# Altium schematic symbol library kmilo17pet-NSC_MiscPower.SchLib: 1552 symbols (part 21 of 43)
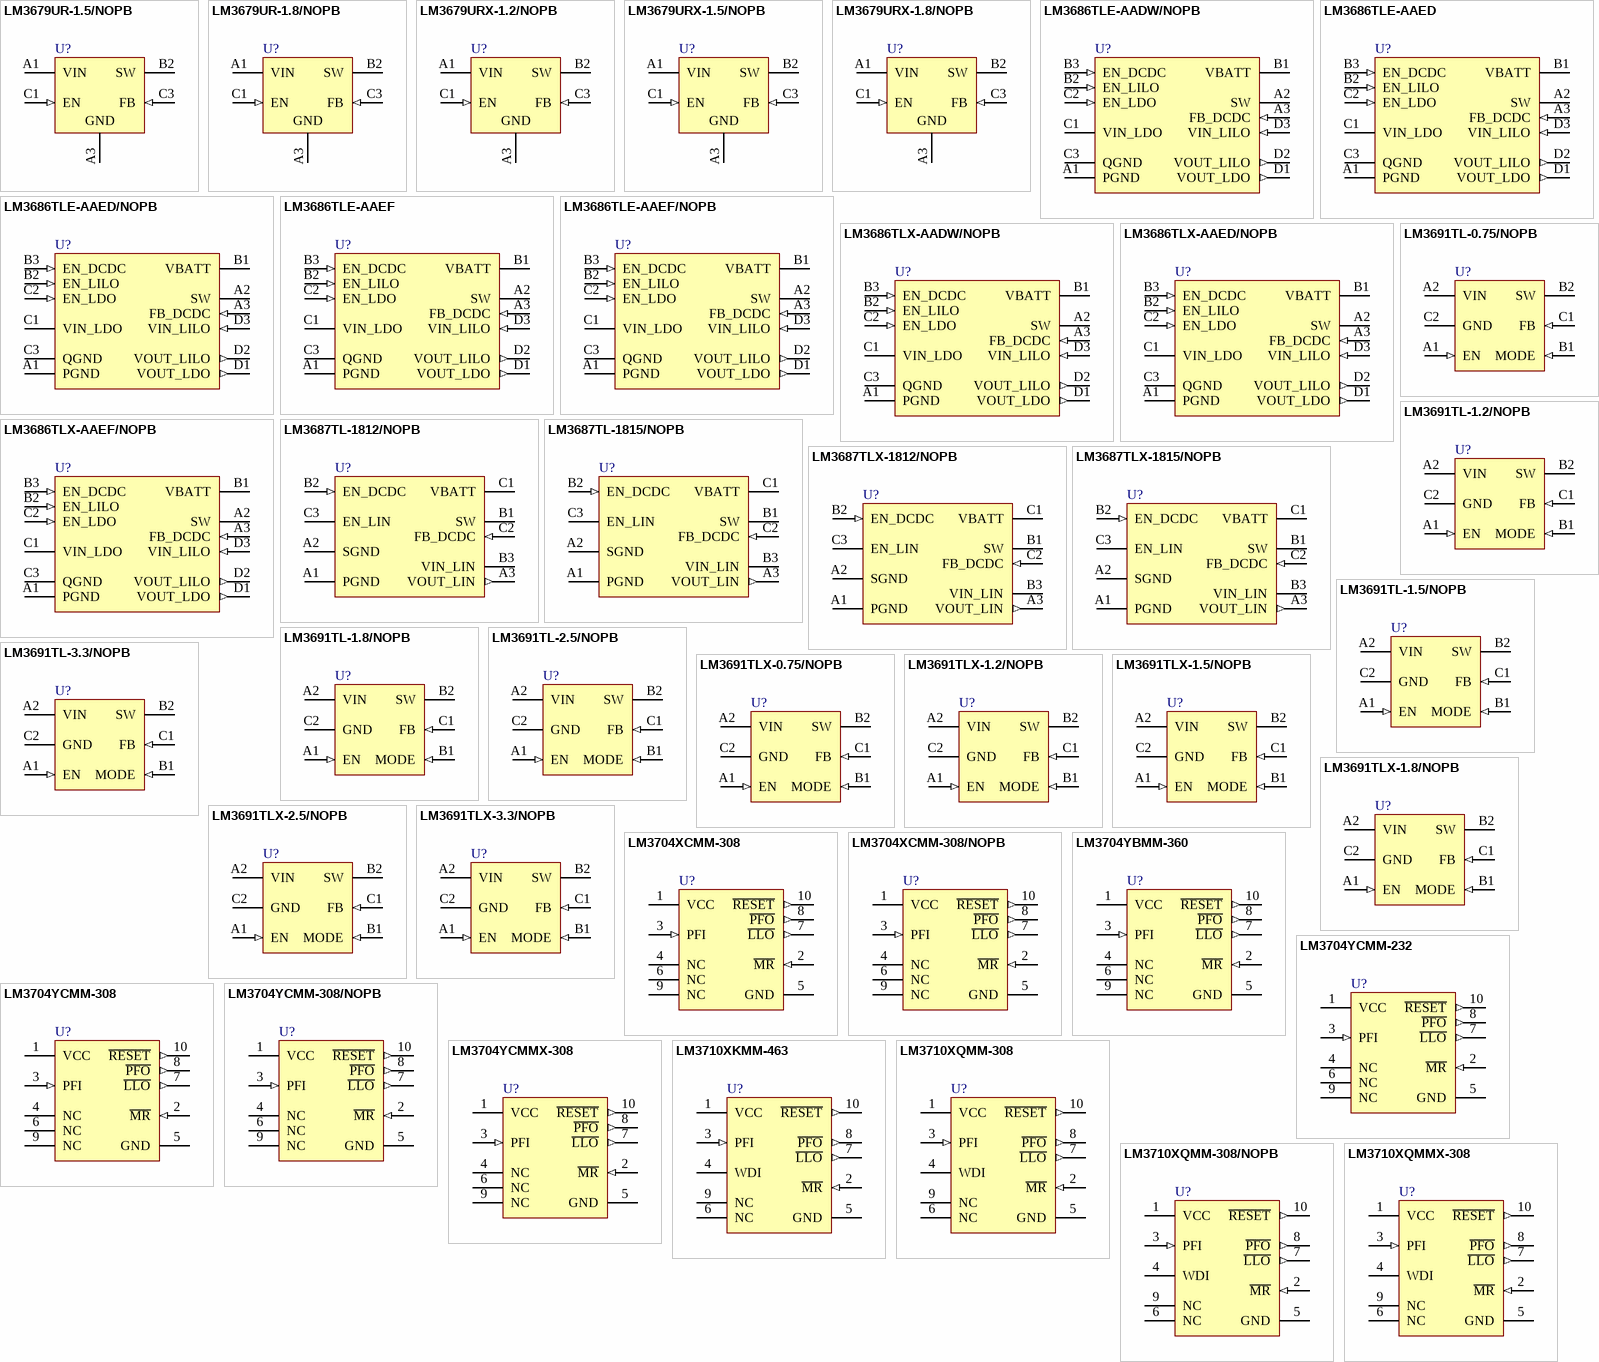
[diagram p77: symbols LM3679UR-1.5/NOPB to LM3710XQMMX-308]

## LM3679URX-1.5/NOPB
designator U?
3MHz, 350mA Miniature Step-Down DC-DC Converter for Ultra Low Profile Applications (Height < 0.55mm), 5-pin Micro SMD, Pb-Free; PartNumber: LM3679URX-1.5/NOPB; Manufacturer: National Semiconductor; PackageTopMarking: XV*I 4; PowerWise: N; CompType: MiscPower; High-Reliability: Y; DatasheetVersion: Feb-2008; PackageVersion: Feb-2008; PackageReference: URA05HHA; PackageDescription: Ultra Thin Micro SMD, 5 Bump (Large), 0.5mm Pitch; RoHS: Y; PinCount: 5; ComponentLink1Description: Manufacturer URL; ComponentLink1URL: http://www.national.com/; ComponentLink2Description: LM3679 Datasheet; ComponentLink2URL: http://www.national.com/ds/LM/LM3679.pdf; ComponentLink3Description: LM3679 Web Page; ComponentLink3URL: http://www.national.com/pf/LM/LM3679.html; ComponentLink4Description: URA05HHA Package Page; ComponentLink4URL: http://www.national.com/packaging/folders/ura05hha.html
footprint URA05HHA (Micro SMD, 5-Leads, Body 1.5x1.13mm, Pitch 0.5mm, NSC Recommended)
pins: A1 VIN (power), A3 GND (power), B2 SW (power), C1 EN (in), C3 FB (in)

## LM3679URX-1.8/NOPB
designator U?
3MHz, 350mA Miniature Step-Down DC-DC Converter for Ultra Low Profile Applications (Height < 0.55mm), 5-pin Micro SMD, Pb-Free; PartNumber: LM3679URX-1.8/NOPB; Manufacturer: National Semiconductor; PackageTopMarking: XV*I R; PowerWise: Y; CompType: MiscPower; DatasheetVersion: Feb-2008; PackageVersion: Feb-2008; PackageReference: URA05HHA; PackageDescription: Ultra Thin Micro SMD, 5 Bump (Large), 0.5mm Pitch; RoHS: Y; PinCount: 5; High-Reliability: Y; ComponentLink1Description: Manufacturer URL; ComponentLink1URL: http://www.national.com/; ComponentLink2Description: LM3679 Datasheet; ComponentLink2URL: http://www.national.com/ds/LM/LM3679.pdf; ComponentLink3Description: LM3679 Web Page; ComponentLink3URL: http://www.national.com/pf/LM/LM3679.html; ComponentLink4Description: URA05HHA Package Page; ComponentLink4URL: http://www.national.com/packaging/folders/ura05hha.html
footprint URA05HHA (Micro SMD, 5-Leads, Body 1.5x1.13mm, Pitch 0.5mm, NSC Recommended)
pins: A1 VIN (power), A3 GND (power), B2 SW (power), C1 EN (in), C3 FB (in)

## LM3686TLE-AADW/NOPB
designator U?
Step-Down DC-DC Converter with Integrated Post Linear Regulators System and Low-Noise Linear Regulator, 12-pin Micro SMD, Pb-Free; PartNumber: LM3686TLE-AADW/NOPB; Manufacturer: National Semiconductor; PackageTopMarking: XYTT*I SUEB; PowerWise: N; CompType: MiscPower; High-Reliability: Y; DatasheetVersion: Dec-2008; PackageVersion: revC, Jan-2004; PackageReference: TLA12HTA; PackageDescription: Thin Micro SMD, 12 Bump (Large), Area Array, 0.5mm Pitch; RoHS: Y; PinCount: 12; Code_JEDEC: MO-211-DE; ComponentLink1Description: Manufacturer URL; ComponentLink1URL: http://www.national.com/; ComponentLink2Description: LM3686 Datasheet; ComponentLink2URL: http://www.national.com/ds/LM/LM3686.pdf; ComponentLink3Description: LM3686 Web Page; ComponentLink3URL: http://www.national.com/pf/LM/LM3686.html; ComponentLink4Description: TLA12HTA Package Page; ComponentLink4URL: http://www.national.com/packaging/folders/tla12hta.html
footprint TLA12HTA (Micro SMD, 12-Leads, Body 2.43x1.69mm, Pitch 0.5mm, NSC Recommended)
pins: A1 PGND (power), A2 SW (power), A3 FB_DCDC (in), B1 VBATT (power), B2 EN_LILO (in), B3 EN_DCDC (in), C1 VIN_LDO (power), C2 EN_LDO (in), C3 QGND (power), D1 VOUT_LDO (out), D2 VOUT_LILO (out), D3 VIN_LILO (in)

## LM3686TLE-AAED
designator U?
Step-Down DC-DC Converter with Integrated Post Linear Regulators System and Low-Noise Linear Regulator, 12-pin Micro SMD; PartNumber: LM3686TLE-AAED; Manufacturer: National Semiconductor; PackageTopMarking: XYTT*I SXTB; PowerWise: N; CompType: MiscPower; High-Reliability: Y; DatasheetVersion: Dec-2008; PackageVersion: revC, Jan-2004; PackageReference: TLA12HTA; PackageDescription: Thin Micro SMD, 12 Bump (Large), Area Array, 0.5mm Pitch; RoHS: Y; PinCount: 12; Code_JEDEC: MO-211-DE; ComponentLink1Description: Manufacturer URL; ComponentLink1URL: http://www.national.com/; ComponentLink2Description: LM3686 Datasheet; ComponentLink2URL: http://www.national.com/ds/LM/LM3686.pdf; ComponentLink3Description: LM3686 Web Page; ComponentLink3URL: http://www.national.com/pf/LM/LM3686.html; ComponentLink4Description: TLA12HTA Package Page; ComponentLink4URL: http://www.national.com/packaging/folders/tla12hta.html
footprint TLA12HTA (Micro SMD, 12-Leads, Body 2.43x1.69mm, Pitch 0.5mm, NSC Recommended)
pins: A1 PGND (power), A2 SW (power), A3 FB_DCDC (in), B1 VBATT (power), B2 EN_LILO (in), B3 EN_DCDC (in), C1 VIN_LDO (power), C2 EN_LDO (in), C3 QGND (power), D1 VOUT_LDO (out), D2 VOUT_LILO (out), D3 VIN_LILO (in)

## LM3686TLE-AAED/NOPB
designator U?
Step-Down DC-DC Converter with Integrated Post Linear Regulators System and Low-Noise Linear Regulator, 12-pin Micro SMD, Pb-Free; PartNumber: LM3686TLE-AAED/NOPB; Manufacturer: National Semiconductor; PackageTopMarking: XYTT*I SXTB; PowerWise: N; CompType: MiscPower; High-Reliability: Y; DatasheetVersion: Dec-2008; PackageVersion: revC, Jan-2004; PackageReference: TLA12HTA; PackageDescription: Thin Micro SMD, 12 Bump (Large), Area Array, 0.5mm Pitch; RoHS: Y; PinCount: 12; Code_JEDEC: MO-211-DE; ComponentLink1Description: Manufacturer URL; ComponentLink1URL: http://www.national.com/; ComponentLink2Description: LM3686 Datasheet; ComponentLink2URL: http://www.national.com/ds/LM/LM3686.pdf; ComponentLink3Description: LM3686 Web Page; ComponentLink3URL: http://www.national.com/pf/LM/LM3686.html; ComponentLink4Description: TLA12HTA Package Page; ComponentLink4URL: http://www.national.com/packaging/folders/tla12hta.html
footprint TLA12HTA (Micro SMD, 12-Leads, Body 2.43x1.69mm, Pitch 0.5mm, NSC Recommended)
pins: A1 PGND (power), A2 SW (power), A3 FB_DCDC (in), B1 VBATT (power), B2 EN_LILO (in), B3 EN_DCDC (in), C1 VIN_LDO (power), C2 EN_LDO (in), C3 QGND (power), D1 VOUT_LDO (out), D2 VOUT_LILO (out), D3 VIN_LILO (in)

## LM3686TLE-AAEF
designator U?
Step-Down DC-DC Converter with Integrated Post Linear Regulators System and Low-Noise Linear Regulator, 12-pin Micro SMD; PartNumber: LM3686TLE-AAEF; Manufacturer: National Semiconductor; PackageTopMarking: XYTT*I SXZB; PowerWise: N; CompType: MiscPower; High-Reliability: Y; DatasheetVersion: Dec-2008; PackageVersion: revC, Jan-2004; PackageReference: TLA12HTA; PackageDescription: Thin Micro SMD, 12 Bump (Large), Area Array, 0.5mm Pitch; RoHS: Y; PinCount: 12; Code_JEDEC: MO-211-DE; ComponentLink1Description: Manufacturer URL; ComponentLink1URL: http://www.national.com/; ComponentLink2Description: LM3686 Datasheet; ComponentLink2URL: http://www.national.com/ds/LM/LM3686.pdf; ComponentLink3Description: LM3686 Web Page; ComponentLink3URL: http://www.national.com/pf/LM/LM3686.html; ComponentLink4Description: TLA12HTA Package Page; ComponentLink4URL: http://www.national.com/packaging/folders/tla12hta.html
footprint TLA12HTA (Micro SMD, 12-Leads, Body 2.43x1.69mm, Pitch 0.5mm, NSC Recommended)
pins: A1 PGND (power), A2 SW (power), A3 FB_DCDC (in), B1 VBATT (power), B2 EN_LILO (in), B3 EN_DCDC (in), C1 VIN_LDO (power), C2 EN_LDO (in), C3 QGND (power), D1 VOUT_LDO (out), D2 VOUT_LILO (out), D3 VIN_LILO (in)

## LM3686TLE-AAEF/NOPB
designator U?
Step-Down DC-DC Converter with Integrated Post Linear Regulators System and Low-Noise Linear Regulator, 12-pin Micro SMD, Pb-Free; PartNumber: LM3686TLE-AAEF/NOPB; Manufacturer: National Semiconductor; PackageTopMarking: XYTT*I SXZB; PowerWise: N; CompType: MiscPower; High-Reliability: Y; DatasheetVersion: Dec-2008; PackageVersion: revC, Jan-2004; PackageReference: TLA12HTA; PackageDescription: Thin Micro SMD, 12 Bump (Large), Area Array, 0.5mm Pitch; RoHS: Y; PinCount: 12; Code_JEDEC: MO-211-DE; ComponentLink1Description: Manufacturer URL; ComponentLink1URL: http://www.national.com/; ComponentLink2Description: LM3686 Datasheet; ComponentLink2URL: http://www.national.com/ds/LM/LM3686.pdf; ComponentLink3Description: LM3686 Web Page; ComponentLink3URL: http://www.national.com/pf/LM/LM3686.html; ComponentLink4Description: TLA12HTA Package Page; ComponentLink4URL: http://www.national.com/packaging/folders/tla12hta.html
footprint TLA12HTA (Micro SMD, 12-Leads, Body 2.43x1.69mm, Pitch 0.5mm, NSC Recommended)
pins: A1 PGND (power), A2 SW (power), A3 FB_DCDC (in), B1 VBATT (power), B2 EN_LILO (in), B3 EN_DCDC (in), C1 VIN_LDO (power), C2 EN_LDO (in), C3 QGND (power), D1 VOUT_LDO (out), D2 VOUT_LILO (out), D3 VIN_LILO (in)

## LM3686TLX-AADW/NOPB
designator U?
Step-Down DC-DC Converter with Integrated Post Linear Regulators System and Low-Noise Linear Regulator, 12-pin Micro SMD, Pb-Free; PartNumber: LM3686TLX-AADW/NOPB; Manufacturer: National Semiconductor; PackageTopMarking: XYTT*I SUEB; PowerWise: N; CompType: MiscPower; High-Reliability: Y; DatasheetVersion: Dec-2008; PackageVersion: revC, Jan-2004; PackageReference: TLA12HTA; PackageDescription: Thin Micro SMD, 12 Bump (Large), Area Array, 0.5mm Pitch; RoHS: Y; PinCount: 12; Code_JEDEC: MO-211-DE; ComponentLink1Description: Manufacturer URL; ComponentLink1URL: http://www.national.com/; ComponentLink2Description: LM3686 Datasheet; ComponentLink2URL: http://www.national.com/ds/LM/LM3686.pdf; ComponentLink3Description: LM3686 Web Page; ComponentLink3URL: http://www.national.com/pf/LM/LM3686.html; ComponentLink4Description: TLA12HTA Package Page; ComponentLink4URL: http://www.national.com/packaging/folders/tla12hta.html
footprint TLA12HTA (Micro SMD, 12-Leads, Body 2.43x1.69mm, Pitch 0.5mm, NSC Recommended)
pins: A1 PGND (power), A2 SW (power), A3 FB_DCDC (in), B1 VBATT (power), B2 EN_LILO (in), B3 EN_DCDC (in), C1 VIN_LDO (power), C2 EN_LDO (in), C3 QGND (power), D1 VOUT_LDO (out), D2 VOUT_LILO (out), D3 VIN_LILO (in)

## LM3686TLX-AAED/NOPB
designator U?
Step-Down DC-DC Converter with Integrated Post Linear Regulators System and Low-Noise Linear Regulator, 12-pin Micro SMD, Pb-Free; PartNumber: LM3686TLX-AAED/NOPB; Manufacturer: National Semiconductor; PackageTopMarking: XYTT*I SXTB; PowerWise: N; CompType: MiscPower; High-Reliability: Y; DatasheetVersion: Dec-2008; PackageVersion: revC, Jan-2004; PackageReference: TLA12HTA; PackageDescription: Thin Micro SMD, 12 Bump (Large), Area Array, 0.5mm Pitch; RoHS: Y; PinCount: 12; Code_JEDEC: MO-211-DE; ComponentLink1Description: Manufacturer URL; ComponentLink1URL: http://www.national.com/; ComponentLink2Description: LM3686 Datasheet; ComponentLink2URL: http://www.national.com/ds/LM/LM3686.pdf; ComponentLink3Description: LM3686 Web Page; ComponentLink3URL: http://www.national.com/pf/LM/LM3686.html; ComponentLink4Description: TLA12HTA Package Page; ComponentLink4URL: http://www.national.com/packaging/folders/tla12hta.html
footprint TLA12HTA (Micro SMD, 12-Leads, Body 2.43x1.69mm, Pitch 0.5mm, NSC Recommended)
pins: A1 PGND (power), A2 SW (power), A3 FB_DCDC (in), B1 VBATT (power), B2 EN_LILO (in), B3 EN_DCDC (in), C1 VIN_LDO (power), C2 EN_LDO (in), C3 QGND (power), D1 VOUT_LDO (out), D2 VOUT_LILO (out), D3 VIN_LILO (in)

## LM3686TLX-AAEF/NOPB
designator U?
Step-Down DC-DC Converter with Integrated Post Linear Regulators System and Low-Noise Linear Regulator, 12-pin Micro SMD, Pb-Free; PartNumber: LM3686TLX-AAEF/NOPB; Manufacturer: National Semiconductor; PackageTopMarking: XYTT*I SXZB; PowerWise: N; CompType: MiscPower; High-Reliability: Y; DatasheetVersion: Dec-2008; PackageVersion: revC, Jan-2004; PackageReference: TLA12HTA; PackageDescription: Thin Micro SMD, 12 Bump (Large), Area Array, 0.5mm Pitch; RoHS: Y; PinCount: 12; Code_JEDEC: MO-211-DE; ComponentLink1Description: Manufacturer URL; ComponentLink1URL: http://www.national.com/; ComponentLink2Description: LM3686 Datasheet; ComponentLink2URL: http://www.national.com/ds/LM/LM3686.pdf; ComponentLink3Description: LM3686 Web Page; ComponentLink3URL: http://www.national.com/pf/LM/LM3686.html; ComponentLink4Description: TLA12HTA Package Page; ComponentLink4URL: http://www.national.com/packaging/folders/tla12hta.html
footprint TLA12HTA (Micro SMD, 12-Leads, Body 2.43x1.69mm, Pitch 0.5mm, NSC Recommended)
pins: A1 PGND (power), A2 SW (power), A3 FB_DCDC (in), B1 VBATT (power), B2 EN_LILO (in), B3 EN_DCDC (in), C1 VIN_LDO (power), C2 EN_LDO (in), C3 QGND (power), D1 VOUT_LDO (out), D2 VOUT_LILO (out), D3 VIN_LILO (in)

## LM3687TL-1812/NOPB
designator U?
Step-Down DC-DC Converter with Integrated Low Dropout Regulator and Startup Mode, 9-pin Micro SMD, Pb-Free; PartNumber: LM3687TL-1812/NOPB; Manufacturer: National Semiconductor; PackageTopMarking: XV*I SB; PowerWise: N; CompType: MiscPower; High-Reliability: Y; DatasheetVersion: Jul-2008; PackageVersion: revC, Jan-2004; PackageReference: TLA09BBA; PackageDescription: Thin Micro SMD, 9 Bump (Large), 0.5mm Pitch; RoHS: Y; PinCount: 9; Code_JEDEC: MO-211-DD; ComponentLink1Description: Manufacturer URL; ComponentLink1URL: http://www.national.com/; ComponentLink2Description: LM3687 Datasheet; ComponentLink2URL: http://www.national.com/ds/LM/LM3687.pdf; ComponentLink3Description: LM3687 Web Page; ComponentLink3URL: http://www.national.com/pf/LM/LM3687.html; ComponentLink4Description: TLA09BBA Package Page; ComponentLink4URL: http://www.national.com/packaging/folders/tla09bba.html
footprint TLA09BBA (Micro SMD, 9-Leads, Body 1.54x1.54mm, Pitch 0.5mm, NSC Recommended)
pins: A1 PGND (power), A2 SGND (power), A3 VOUT_LIN (out), B1 SW (power), B2 EN_DCDC (in), B3 VIN_LIN (power), C1 VBATT (power), C2 FB_DCDC (in), C3 EN_LIN (power)

## LM3687TL-1815/NOPB
designator U?
Step-Down DC-DC Converter with Integrated Low Dropout Regulator and Startup Mode, 9-pin Micro SMD, Pb-Free; PartNumber: LM3687TL-1815/NOPB; Manufacturer: National Semiconductor; PackageTopMarking: XV*I S9; PowerWise: Y; CompType: MiscPower; DatasheetVersion: Jul-2008; PackageVersion: revC, Jan-2004; PackageReference: TLA09BBA; PackageDescription: Thin Micro SMD, 9 Bump (Large), 0.5mm Pitch; RoHS: Y; PinCount: 9; High-Reliability: Y; Code_JEDEC: MO-211-DD; ComponentLink1Description: Manufacturer URL; ComponentLink1URL: http://www.national.com/; ComponentLink2Description: LM3687 Datasheet; ComponentLink2URL: http://www.national.com/ds/LM/LM3687.pdf; ComponentLink3Description: LM3687 Web Page; ComponentLink3URL: http://www.national.com/pf/LM/LM3687.html; ComponentLink4Description: TLA09BBA Package Page; ComponentLink4URL: http://www.national.com/packaging/folders/tla09bba.html
footprint TLA09BBA (Micro SMD, 9-Leads, Body 1.54x1.54mm, Pitch 0.5mm, NSC Recommended)
pins: A1 PGND (power), A2 SGND (power), A3 VOUT_LIN (out), B1 SW (power), B2 EN_DCDC (in), B3 VIN_LIN (power), C1 VBATT (power), C2 FB_DCDC (in), C3 EN_LIN (power)

## LM3687TLX-1812/NOPB
designator U?
Step-Down DC-DC Converter with Integrated Low Dropout Regulator and Startup Mode, 9-pin Micro SMD, Pb-Free; PartNumber: LM3687TLX-1812/NOPB; Manufacturer: National Semiconductor; PackageTopMarking: XV*I SB; PowerWise: N; CompType: MiscPower; High-Reliability: Y; DatasheetVersion: Jul-2008; PackageVersion: revC, Jan-2004; PackageReference: TLA09BBA; PackageDescription: Thin Micro SMD, 9 Bump (Large), 0.5mm Pitch; RoHS: Y; PinCount: 9; Code_JEDEC: MO-211-DD; ComponentLink1Description: Manufacturer URL; ComponentLink1URL: http://www.national.com/; ComponentLink2Description: LM3687 Datasheet; ComponentLink2URL: http://www.national.com/ds/LM/LM3687.pdf; ComponentLink3Description: LM3687 Web Page; ComponentLink3URL: http://www.national.com/pf/LM/LM3687.html; ComponentLink4Description: TLA09BBA Package Page; ComponentLink4URL: http://www.national.com/packaging/folders/tla09bba.html
footprint TLA09BBA (Micro SMD, 9-Leads, Body 1.54x1.54mm, Pitch 0.5mm, NSC Recommended)
pins: A1 PGND (power), A2 SGND (power), A3 VOUT_LIN (out), B1 SW (power), B2 EN_DCDC (in), B3 VIN_LIN (power), C1 VBATT (power), C2 FB_DCDC (in), C3 EN_LIN (power)

## LM3687TLX-1815/NOPB
designator U?
Step-Down DC-DC Converter with Integrated Low Dropout Regulator and Startup Mode, 9-pin Micro SMD, Pb-Free; PartNumber: LM3687TLX-1815/NOPB; Manufacturer: National Semiconductor; PackageTopMarking: XV*I S9; PowerWise: Y; CompType: MiscPower; DatasheetVersion: Jul-2008; PackageVersion: revC, Jan-2004; PackageReference: TLA09BBA; PackageDescription: Thin Micro SMD, 9 Bump (Large), 0.5mm Pitch; RoHS: Y; PinCount: 9; High-Reliability: Y; Code_JEDEC: MO-211-DD; ComponentLink1Description: Manufacturer URL; ComponentLink1URL: http://www.national.com/; ComponentLink2Description: LM3687 Datasheet; ComponentLink2URL: http://www.national.com/ds/LM/LM3687.pdf; ComponentLink3Description: LM3687 Web Page; ComponentLink3URL: http://www.national.com/pf/LM/LM3687.html; ComponentLink4Description: TLA09BBA Package Page; ComponentLink4URL: http://www.national.com/packaging/folders/tla09bba.html
footprint TLA09BBA (Micro SMD, 9-Leads, Body 1.54x1.54mm, Pitch 0.5mm, NSC Recommended)
pins: A1 PGND (power), A2 SGND (power), A3 VOUT_LIN (out), B1 SW (power), B2 EN_DCDC (in), B3 VIN_LIN (power), C1 VBATT (power), C2 FB_DCDC (in), C3 EN_LIN (power)

## LM3691TL-0.75/NOPB
designator U?
High Accuracy, Miniature 1A, Step-Down DC-DC Converter for Portable Applications, 6-pin Micro SMD, Pb-Free; PartNumber: LM3691TL-0.75/NOPB; Manufacturer: National Semiconductor; PackageTopMarking: XV*I V; PowerWise: Y; CompType: MiscPower; DatasheetVersion: Jan-2011; PackageVersion: revC, Jan-2004; PackageReference: TLA06LCA; PackageDescription: Thin Micro SMD, 6 Bump (Large), 0.5mm Pitch; RoHS: Y; PinCount: 6; High-Reliability: Y; Code_JEDEC: MO-211-DB; ComponentLink1Description: Manufacturer URL; ComponentLink1URL: http://www.national.com/; ComponentLink2Description: LM3691 Datasheet; ComponentLink2URL: http://www.national.com/ds/LM/LM3691.pdf; ComponentLink3Description: LM3691 Web Page; ComponentLink3URL: http://www.national.com/pf/LM/LM3691.html; ComponentLink4Description: TLA06LCA Package Page; ComponentLink4URL: http://www.national.com/packaging/folders/tla06lca.html
footprint TLA06LCA (Micro SMD, 6-Leads, Body 1.57x1.26mm, Pitch 0.5mm, NSC Recommended)
pins: A1 EN (in), A2 VIN (power), B1 MODE (in), B2 SW (power), C1 FB (in), C2 GND (power)

## LM3691TL-1.2/NOPB
designator U?
High Accuracy, Miniature 1A, Step-Down DC-DC Converter for Portable Applications, 6-pin Micro SMD, Pb-Free; PartNumber: LM3691TL-1.2/NOPB; Manufacturer: National Semiconductor; PackageTopMarking: XV*I X; PowerWise: Y; CompType: MiscPower; DatasheetVersion: Jan-2011; PackageVersion: revC, Jan-2004; PackageReference: TLA06LCA; PackageDescription: Thin Micro SMD, 6 Bump (Large), 0.5mm Pitch; RoHS: Y; PinCount: 6; High-Reliability: Y; Code_JEDEC: MO-211-DB; ComponentLink1Description: Manufacturer URL; ComponentLink1URL: http://www.national.com/; ComponentLink2Description: LM3691 Datasheet; ComponentLink2URL: http://www.national.com/ds/LM/LM3691.pdf; ComponentLink3Description: LM3691 Web Page; ComponentLink3URL: http://www.national.com/pf/LM/LM3691.html; ComponentLink4Description: TLA06LCA Package Page; ComponentLink4URL: http://www.national.com/packaging/folders/tla06lca.html
footprint TLA06LCA (Micro SMD, 6-Leads, Body 1.57x1.26mm, Pitch 0.5mm, NSC Recommended)
pins: A1 EN (in), A2 VIN (power), B1 MODE (in), B2 SW (power), C1 FB (in), C2 GND (power)

## LM3691TL-1.5/NOPB
designator U?
High Accuracy, Miniature 1A, Step-Down DC-DC Converter for Portable Applications, 6-pin Micro SMD, Pb-Free; PartNumber: LM3691TL-1.5/NOPB; Manufacturer: National Semiconductor; PackageTopMarking: XV*I Y; PowerWise: Y; CompType: MiscPower; DatasheetVersion: Jan-2011; PackageVersion: revC, Jan-2004; PackageReference: TLA06LCA; PackageDescription: Thin Micro SMD, 6 Bump (Large), 0.5mm Pitch; RoHS: Y; PinCount: 6; High-Reliability: Y; Code_JEDEC: MO-211-DB; ComponentLink1Description: Manufacturer URL; ComponentLink1URL: http://www.national.com/; ComponentLink2Description: LM3691 Datasheet; ComponentLink2URL: http://www.national.com/ds/LM/LM3691.pdf; ComponentLink3Description: LM3691 Web Page; ComponentLink3URL: http://www.national.com/pf/LM/LM3691.html; ComponentLink4Description: TLA06LCA Package Page; ComponentLink4URL: http://www.national.com/packaging/folders/tla06lca.html
footprint TLA06LCA (Micro SMD, 6-Leads, Body 1.57x1.26mm, Pitch 0.5mm, NSC Recommended)
pins: A1 EN (in), A2 VIN (power), B1 MODE (in), B2 SW (power), C1 FB (in), C2 GND (power)

## LM3691TL-1.8/NOPB
designator U?
High Accuracy, Miniature 1A, Step-Down DC-DC Converter for Portable Applications, 6-pin Micro SMD, Pb-Free; PartNumber: LM3691TL-1.8/NOPB; Manufacturer: National Semiconductor; PackageTopMarking: XV*I Z; PowerWise: Y; CompType: MiscPower; DatasheetVersion: Jan-2011; PackageVersion: revC, Jan-2004; PackageReference: TLA06LCA; PackageDescription: Thin Micro SMD, 6 Bump (Large), 0.5mm Pitch; RoHS: Y; PinCount: 6; High-Reliability: Y; Code_JEDEC: MO-211-DB; ComponentLink1Description: Manufacturer URL; ComponentLink1URL: http://www.national.com/; ComponentLink2Description: LM3691 Datasheet; ComponentLink2URL: http://www.national.com/ds/LM/LM3691.pdf; ComponentLink3Description: LM3691 Web Page; ComponentLink3URL: http://www.national.com/pf/LM/LM3691.html; ComponentLink4Description: TLA06LCA Package Page; ComponentLink4URL: http://www.national.com/packaging/folders/tla06lca.html
footprint TLA06LCA (Micro SMD, 6-Leads, Body 1.57x1.26mm, Pitch 0.5mm, NSC Recommended)
pins: A1 EN (in), A2 VIN (power), B1 MODE (in), B2 SW (power), C1 FB (in), C2 GND (power)

## LM3691TL-2.5/NOPB
designator U?
High Accuracy, Miniature 1A, Step-Down DC-DC Converter for Portable Applications, 6-pin Micro SMD, Pb-Free; PartNumber: LM3691TL-2.5/NOPB; Manufacturer: National Semiconductor; PackageTopMarking: XV*I 8; PowerWise: N; CompType: MiscPower; High-Reliability: Y; DatasheetVersion: Jan-2011; PackageVersion: revC, Jan-2004; PackageReference: TLA06LCA; PackageDescription: Thin Micro SMD, 6 Bump (Large), 0.5mm Pitch; RoHS: Y; PinCount: 6; Code_JEDEC: MO-211-DB; ComponentLink1Description: Manufacturer URL; ComponentLink1URL: http://www.national.com/; ComponentLink2Description: LM3691 Datasheet; ComponentLink2URL: http://www.national.com/ds/LM/LM3691.pdf; ComponentLink3Description: LM3691 Web Page; ComponentLink3URL: http://www.national.com/pf/LM/LM3691.html; ComponentLink4Description: TLA06LCA Package Page; ComponentLink4URL: http://www.national.com/packaging/folders/tla06lca.html
footprint TLA06LCA (Micro SMD, 6-Leads, Body 1.57x1.26mm, Pitch 0.5mm, NSC Recommended)
pins: A1 EN (in), A2 VIN (power), B1 MODE (in), B2 SW (power), C1 FB (in), C2 GND (power)

## LM3691TL-3.3/NOPB
designator U?
High Accuracy, Miniature 1A, Step-Down DC-DC Converter for Portable Applications, 6-pin Micro SMD, 250 Reel; PartNumber: LM3691TL-3.3/NOPB; Manufacturer: National Semiconductor; PackageTopMarking: XV*I T; PowerWise: N; CompType: MiscPower; High-Reliability: Y; DatasheetVersion: Jan-2011; PackageVersion: revC, Jan-2004; PackageReference: TLA06LCA; PackageDescription: Thin Micro SMD, 6 Bump (Large), 0.5mm Pitch; RoHS: Y; PinCount: 6; Code_JEDEC: MO-211-DB; ComponentLink1Description: Manufacturer URL; ComponentLink1URL: http://www.national.com/; ComponentLink2Description: LM3691 Datasheet; ComponentLink2URL: http://www.national.com/ds/LM/LM3691.pdf; ComponentLink3Description: LM3691 Web Page; ComponentLink3URL: http://www.national.com/pf/LM/LM3691.html; ComponentLink4Description: TLA06LCA Package Page; ComponentLink4URL: http://www.national.com/packaging/folders/tla06lca.html
footprint TLA06LCA (Micro SMD, 6-Leads, Body 1.57x1.26mm, Pitch 0.5mm, NSC Recommended)
pins: A1 EN (in), A2 VIN (power), B1 MODE (in), B2 SW (power), C1 FB (in), C2 GND (power)

## LM3691TLX-0.75/NOPB
designator U?
High Accuracy, Miniature 1A, Step-Down DC-DC Converter for Portable Applications, 6-pin Micro SMD, Pb-Free; PartNumber: LM3691TLX-0.75/NOPB; Manufacturer: National Semiconductor; PackageTopMarking: XV*I V; PowerWise: Y; CompType: MiscPower; DatasheetVersion: Jan-2011; PackageVersion: revC, Jan-2004; PackageReference: TLA06LCA; PackageDescription: Thin Micro SMD, 6 Bump (Large), 0.5mm Pitch; RoHS: Y; PinCount: 6; High-Reliability: Y; Code_JEDEC: MO-211-DB; ComponentLink1Description: Manufacturer URL; ComponentLink1URL: http://www.national.com/; ComponentLink2Description: LM3691 Datasheet; ComponentLink2URL: http://www.national.com/ds/LM/LM3691.pdf; ComponentLink3Description: LM3691 Web Page; ComponentLink3URL: http://www.national.com/pf/LM/LM3691.html; ComponentLink4Description: TLA06LCA Package Page; ComponentLink4URL: http://www.national.com/packaging/folders/tla06lca.html
footprint TLA06LCA (Micro SMD, 6-Leads, Body 1.57x1.26mm, Pitch 0.5mm, NSC Recommended)
pins: A1 EN (in), A2 VIN (power), B1 MODE (in), B2 SW (power), C1 FB (in), C2 GND (power)

## LM3691TLX-1.2/NOPB
designator U?
High Accuracy, Miniature 1A, Step-Down DC-DC Converter for Portable Applications, 6-pin Micro SMD, Pb-Free; PartNumber: LM3691TLX-1.2/NOPB; Manufacturer: National Semiconductor; PackageTopMarking: XV*I X; PowerWise: Y; CompType: MiscPower; DatasheetVersion: Jan-2011; PackageVersion: revC, Jan-2004; PackageReference: TLA06LCA; PackageDescription: Thin Micro SMD, 6 Bump (Large), 0.5mm Pitch; RoHS: Y; PinCount: 6; High-Reliability: Y; Code_JEDEC: MO-211-DB; ComponentLink1Description: Manufacturer URL; ComponentLink1URL: http://www.national.com/; ComponentLink2Description: LM3691 Datasheet; ComponentLink2URL: http://www.national.com/ds/LM/LM3691.pdf; ComponentLink3Description: LM3691 Web Page; ComponentLink3URL: http://www.national.com/pf/LM/LM3691.html; ComponentLink4Description: TLA06LCA Package Page; ComponentLink4URL: http://www.national.com/packaging/folders/tla06lca.html
footprint TLA06LCA (Micro SMD, 6-Leads, Body 1.57x1.26mm, Pitch 0.5mm, NSC Recommended)
pins: A1 EN (in), A2 VIN (power), B1 MODE (in), B2 SW (power), C1 FB (in), C2 GND (power)

## LM3691TLX-1.5/NOPB
designator U?
High Accuracy, Miniature 1A, Step-Down DC-DC Converter for Portable Applications, 6-pin Micro SMD, Pb-Free; PartNumber: LM3691TLX-1.5/NOPB; Manufacturer: National Semiconductor; PackageTopMarking: XV*I Y; PowerWise: Y; CompType: MiscPower; DatasheetVersion: Jan-2011; PackageVersion: revC, Jan-2004; PackageReference: TLA06LCA; PackageDescription: Thin Micro SMD, 6 Bump (Large), 0.5mm Pitch; RoHS: Y; PinCount: 6; High-Reliability: Y; Code_JEDEC: MO-211-DB; ComponentLink1Description: Manufacturer URL; ComponentLink1URL: http://www.national.com/; ComponentLink2Description: LM3691 Datasheet; ComponentLink2URL: http://www.national.com/ds/LM/LM3691.pdf; ComponentLink3Description: LM3691 Web Page; ComponentLink3URL: http://www.national.com/pf/LM/LM3691.html; ComponentLink4Description: TLA06LCA Package Page; ComponentLink4URL: http://www.national.com/packaging/folders/tla06lca.html
footprint TLA06LCA (Micro SMD, 6-Leads, Body 1.57x1.26mm, Pitch 0.5mm, NSC Recommended)
pins: A1 EN (in), A2 VIN (power), B1 MODE (in), B2 SW (power), C1 FB (in), C2 GND (power)

## LM3691TLX-1.8/NOPB
designator U?
High Accuracy, Miniature 1A, Step-Down DC-DC Converter for Portable Applications, 6-pin Micro SMD, Pb-Free; PartNumber: LM3691TLX-1.8/NOPB; Manufacturer: National Semiconductor; PackageTopMarking: XV*I Z; PowerWise: Y; CompType: MiscPower; DatasheetVersion: Jan-2011; PackageVersion: revC, Jan-2004; PackageReference: TLA06LCA; PackageDescription: Thin Micro SMD, 6 Bump (Large), 0.5mm Pitch; RoHS: Y; PinCount: 6; High-Reliability: Y; Code_JEDEC: MO-211-DB; ComponentLink1Description: Manufacturer URL; ComponentLink1URL: http://www.national.com/; ComponentLink2Description: LM3691 Datasheet; ComponentLink2URL: http://www.national.com/ds/LM/LM3691.pdf; ComponentLink3Description: LM3691 Web Page; ComponentLink3URL: http://www.national.com/pf/LM/LM3691.html; ComponentLink4Description: TLA06LCA Package Page; ComponentLink4URL: http://www.national.com/packaging/folders/tla06lca.html
footprint TLA06LCA (Micro SMD, 6-Leads, Body 1.57x1.26mm, Pitch 0.5mm, NSC Recommended)
pins: A1 EN (in), A2 VIN (power), B1 MODE (in), B2 SW (power), C1 FB (in), C2 GND (power)

## LM3691TLX-2.5/NOPB
designator U?
High Accuracy, Miniature 1A, Step-Down DC-DC Converter for Portable Applications, 6-pin Micro SMD, Pb-Free; PartNumber: LM3691TLX-2.5/NOPB; Manufacturer: National Semiconductor; PackageTopMarking: XV*I 8; PowerWise: N; CompType: MiscPower; High-Reliability: Y; DatasheetVersion: Jan-2011; PackageVersion: revC, Jan-2004; PackageReference: TLA06LCA; PackageDescription: Thin Micro SMD, 6 Bump (Large), 0.5mm Pitch; RoHS: Y; PinCount: 6; Code_JEDEC: MO-211-DB; ComponentLink1Description: Manufacturer URL; ComponentLink1URL: http://www.national.com/; ComponentLink2Description: LM3691 Datasheet; ComponentLink2URL: http://www.national.com/ds/LM/LM3691.pdf; ComponentLink3Description: LM3691 Web Page; ComponentLink3URL: http://www.national.com/pf/LM/LM3691.html; ComponentLink4Description: TLA06LCA Package Page; ComponentLink4URL: http://www.national.com/packaging/folders/tla06lca.html
footprint TLA06LCA (Micro SMD, 6-Leads, Body 1.57x1.26mm, Pitch 0.5mm, NSC Recommended)
pins: A1 EN (in), A2 VIN (power), B1 MODE (in), B2 SW (power), C1 FB (in), C2 GND (power)

## LM3691TLX-3.3/NOPB
designator U?
High Accuracy, Miniature 1A, Step-Down DC-DC Converter for Portable Applications, 6-pin Micro SMD, 3000 Reel; PartNumber: LM3691TLX-3.3/NOPB; Manufacturer: National Semiconductor; PackageTopMarking: XV*I T; PowerWise: N; CompType: MiscPower; High-Reliability: Y; DatasheetVersion: Jan-2011; PackageVersion: revC, Jan-2004; PackageReference: TLA06LCA; PackageDescription: Thin Micro SMD, 6 Bump (Large), 0.5mm Pitch; RoHS: Y; PinCount: 6; Code_JEDEC: MO-211-DB; ComponentLink1Description: Manufacturer URL; ComponentLink1URL: http://www.national.com/; ComponentLink2Description: LM3691 Datasheet; ComponentLink2URL: http://www.national.com/ds/LM/LM3691.pdf; ComponentLink3Description: LM3691 Web Page; ComponentLink3URL: http://www.national.com/pf/LM/LM3691.html; ComponentLink4Description: TLA06LCA Package Page; ComponentLink4URL: http://www.national.com/packaging/folders/tla06lca.html
footprint TLA06LCA (Micro SMD, 6-Leads, Body 1.57x1.26mm, Pitch 0.5mm, NSC Recommended)
pins: A1 EN (in), A2 VIN (power), B1 MODE (in), B2 SW (power), C1 FB (in), C2 GND (power)

## LM3704XCMM-308
designator U?
Microprocessor Supervisory Circuits with Power Fail Input, Low Line Output and Manual Reset, 10-pin MSOP; PartNumber: LM3704XCMM-308; Manufacturer: National Semiconductor; PackageTopMarking: ZXTT*R35B; PowerWise: N; CompType: MiscPower; High-Reliability: Y; DatasheetVersion: Sep-2003; PackageVersion: revB, Jul-2003; PackageReference: MUB10A; PackageDescription: Mini-SO, Molded, .118 x .118 x .034in Body, 10 Lead, .0197in Pitch; RoHS: N; PinCount: 10; Code_JEDEC: MO-187-BA; ComponentLink1Description: Manufacturer URL; ComponentLink1URL: http://www.national.com/; ComponentLink2Description: LM3704 Datasheet; ComponentLink2URL: http://www.national.com/ds/LM/LM3704.pdf; ComponentLink3Description: LM3704 Web Page; ComponentLink3URL: http://www.national.com/pf/LM/LM3704.html; ComponentLink4Description: MUB10A Package Page; ComponentLink4URL: http://www.national.com/packaging/folders/mub10a.html
footprint MUB10A_N (TSSOP, 10-Leads, Body 3x3mm, Pitch 0.5mm, IPC Medium Density)
footprint MUB10A_L (TSSOP, 10-Leads, Body 3x3mm, Pitch 0.5mm, IPC High Density)
footprint MUB10A_M (TSSOP, 10-Leads, Body 3x3mm, Pitch 0.5mm, IPC Low Density)
pins: 1 VCC (power), 2 ~{MR} (in), 3 PFI (in), 4 NC, 5 GND (power), 6 NC, 7 ~{LLO} (out), 8 ~{PFO} (out), 9 NC, 10 ~{RESET} (out)

## LM3704XCMM-308/NOPB
designator U?
Microprocessor Supervisory Circuits with Power Fail Input, Low Line Output and Manual Reset, 10-pin MSOP, Pb-Free; PartNumber: LM3704XCMM-308/NOPB; Manufacturer: National Semiconductor; PackageTopMarking: ZXTT*R35B; PowerWise: N; CompType: MiscPower; High-Reliability: Y; DatasheetVersion: Sep-2003; PackageVersion: revB, Jul-2003; PackageReference: MUB10A; PackageDescription: Mini-SO, Molded, .118 x .118 x .034in Body, 10 Lead, .0197in Pitch; RoHS: Y; PinCount: 10; Code_JEDEC: MO-187-BA; ComponentLink1Description: Manufacturer URL; ComponentLink1URL: http://www.national.com/; ComponentLink2Description: LM3704 Datasheet; ComponentLink2URL: http://www.national.com/ds/LM/LM3704.pdf; ComponentLink3Description: LM3704 Web Page; ComponentLink3URL: http://www.national.com/pf/LM/LM3704.html; ComponentLink4Description: MUB10A Package Page; ComponentLink4URL: http://www.national.com/packaging/folders/mub10a.html
footprint MUB10A_N (TSSOP, 10-Leads, Body 3x3mm, Pitch 0.5mm, IPC Medium Density)
footprint MUB10A_L (TSSOP, 10-Leads, Body 3x3mm, Pitch 0.5mm, IPC High Density)
footprint MUB10A_M (TSSOP, 10-Leads, Body 3x3mm, Pitch 0.5mm, IPC Low Density)
pins: 1 VCC (power), 2 ~{MR} (in), 3 PFI (in), 4 NC, 5 GND (power), 6 NC, 7 ~{LLO} (out), 8 ~{PFO} (out), 9 NC, 10 ~{RESET} (out)

## LM3704YBMM-360
designator U?
Microprocessor Supervisory Circuits with Power Fail Input, Low Line Output and Manual Reset, 10-pin MSOP; PartNumber: LM3704YBMM-360; Manufacturer: National Semiconductor; PackageTopMarking: ZXTT*R49B; PowerWise: N; CompType: MiscPower; High-Reliability: Y; DatasheetVersion: Sep-2003; PackageVersion: revB, Jul-2003; PackageReference: MUB10A; PackageDescription: Mini-SO, Molded, .118 x .118 x .034in Body, 10 Lead, .0197in Pitch; RoHS: N; PinCount: 10; Code_JEDEC: MO-187-BA; ComponentLink1Description: Manufacturer URL; ComponentLink1URL: http://www.national.com/; ComponentLink2Description: LM3704 Datasheet; ComponentLink2URL: http://www.national.com/ds/LM/LM3704.pdf; ComponentLink3Description: LM3704 Web Page; ComponentLink3URL: http://www.national.com/pf/LM/LM3704.html; ComponentLink4Description: MUB10A Package Page; ComponentLink4URL: http://www.national.com/packaging/folders/mub10a.html
footprint MUB10A_N (TSSOP, 10-Leads, Body 3x3mm, Pitch 0.5mm, IPC Medium Density)
footprint MUB10A_L (TSSOP, 10-Leads, Body 3x3mm, Pitch 0.5mm, IPC High Density)
footprint MUB10A_M (TSSOP, 10-Leads, Body 3x3mm, Pitch 0.5mm, IPC Low Density)
pins: 1 VCC (power), 2 ~{MR} (in), 3 PFI (in), 4 NC, 5 GND (power), 6 NC, 7 ~{LLO} (out), 8 ~{PFO} (out), 9 NC, 10 ~{RESET} (out)

## LM3704YCMM-232
designator U?
Microprocessor Supervisory Circuits with Power Fail Input, Low Line Output and Manual Reset, 10-pin MSOP; PartNumber: LM3704YCMM-232; Manufacturer: National Semiconductor; PackageTopMarking: ZXTT*R76B; PowerWise: N; CompType: MiscPower; High-Reliability: Y; DatasheetVersion: Sep-2003; PackageVersion: revB, Jul-2003; PackageReference: MUB10A; PackageDescription: Mini-SO, Molded, .118 x .118 x .034in Body, 10 Lead, .0197in Pitch; RoHS: N; PinCount: 10; Code_JEDEC: MO-187-BA; ComponentLink1Description: Manufacturer URL; ComponentLink1URL: http://www.national.com/; ComponentLink2Description: LM3704 Datasheet; ComponentLink2URL: http://www.national.com/ds/LM/LM3704.pdf; ComponentLink3Description: LM3704 Web Page; ComponentLink3URL: http://www.national.com/pf/LM/LM3704.html; ComponentLink4Description: MUB10A Package Page; ComponentLink4URL: http://www.national.com/packaging/folders/mub10a.html
footprint MUB10A_N (TSSOP, 10-Leads, Body 3x3mm, Pitch 0.5mm, IPC Medium Density)
footprint MUB10A_L (TSSOP, 10-Leads, Body 3x3mm, Pitch 0.5mm, IPC High Density)
footprint MUB10A_M (TSSOP, 10-Leads, Body 3x3mm, Pitch 0.5mm, IPC Low Density)
pins: 1 VCC (power), 2 ~{MR} (in), 3 PFI (in), 4 NC, 5 GND (power), 6 NC, 7 ~{LLO} (out), 8 ~{PFO} (out), 9 NC, 10 ~{RESET} (out)

## LM3704YCMM-308
designator U?
Microprocessor Supervisory Circuits with Power Fail Input, Low Line Output and Manual Reset, 10-pin MSOP; PartNumber: LM3704YCMM-308; Manufacturer: National Semiconductor; PackageTopMarking: ZXTT*R48B; PowerWise: N; CompType: MiscPower; High-Reliability: Y; DatasheetVersion: Sep-2003; PackageVersion: revB, Jul-2003; PackageReference: MUB10A; PackageDescription: Mini-SO, Molded, .118 x .118 x .034in Body, 10 Lead, .0197in Pitch; RoHS: N; PinCount: 10; Code_JEDEC: MO-187-BA; ComponentLink1Description: Manufacturer URL; ComponentLink1URL: http://www.national.com/; ComponentLink2Description: LM3704 Datasheet; ComponentLink2URL: http://www.national.com/ds/LM/LM3704.pdf; ComponentLink3Description: LM3704 Web Page; ComponentLink3URL: http://www.national.com/pf/LM/LM3704.html; ComponentLink4Description: MUB10A Package Page; ComponentLink4URL: http://www.national.com/packaging/folders/mub10a.html
footprint MUB10A_N (TSSOP, 10-Leads, Body 3x3mm, Pitch 0.5mm, IPC Medium Density)
footprint MUB10A_L (TSSOP, 10-Leads, Body 3x3mm, Pitch 0.5mm, IPC High Density)
footprint MUB10A_M (TSSOP, 10-Leads, Body 3x3mm, Pitch 0.5mm, IPC Low Density)
pins: 1 VCC (power), 2 ~{MR} (in), 3 PFI (in), 4 NC, 5 GND (power), 6 NC, 7 ~{LLO} (out), 8 ~{PFO} (out), 9 NC, 10 ~{RESET} (out)

## LM3704YCMM-308/NOPB
designator U?
Microprocessor Supervisory Circuits with Power Fail Input, Low Line Output and Manual Reset, 10-pin MSOP, Pb-Free; PartNumber: LM3704YCMM-308/NOPB; Manufacturer: National Semiconductor; PackageTopMarking: ZXTT*R48B; PowerWise: N; CompType: MiscPower; High-Reliability: Y; DatasheetVersion: Sep-2003; PackageVersion: revB, Jul-2003; PackageReference: MUB10A; PackageDescription: Mini-SO, Molded, .118 x .118 x .034in Body, 10 Lead, .0197in Pitch; RoHS: Y; PinCount: 10; Code_JEDEC: MO-187-BA; ComponentLink1Description: Manufacturer URL; ComponentLink1URL: http://www.national.com/; ComponentLink2Description: LM3704 Datasheet; ComponentLink2URL: http://www.national.com/ds/LM/LM3704.pdf; ComponentLink3Description: LM3704 Web Page; ComponentLink3URL: http://www.national.com/pf/LM/LM3704.html; ComponentLink4Description: MUB10A Package Page; ComponentLink4URL: http://www.national.com/packaging/folders/mub10a.html
footprint MUB10A_N (TSSOP, 10-Leads, Body 3x3mm, Pitch 0.5mm, IPC Medium Density)
footprint MUB10A_L (TSSOP, 10-Leads, Body 3x3mm, Pitch 0.5mm, IPC High Density)
footprint MUB10A_M (TSSOP, 10-Leads, Body 3x3mm, Pitch 0.5mm, IPC Low Density)
pins: 1 VCC (power), 2 ~{MR} (in), 3 PFI (in), 4 NC, 5 GND (power), 6 NC, 7 ~{LLO} (out), 8 ~{PFO} (out), 9 NC, 10 ~{RESET} (out)

## LM3704YCMMX-308
designator U?
Microprocessor Supervisory Circuits with Power Fail Input, Low Line Output and Manual Reset, 10-pin MSOP; PartNumber: LM3704YCMMX-308; Manufacturer: National Semiconductor; PackageTopMarking: ZXTT*R48B; PowerWise: N; CompType: MiscPower; High-Reliability: Y; DatasheetVersion: Sep-2003; PackageVersion: revB, Jul-2003; PackageReference: MUB10A; PackageDescription: Mini-SO, Molded, .118 x .118 x .034in Body, 10 Lead, .0197in Pitch; RoHS: N; PinCount: 10; Code_JEDEC: MO-187-BA; ComponentLink1Description: Manufacturer URL; ComponentLink1URL: http://www.national.com/; ComponentLink2Description: LM3704 Datasheet; ComponentLink2URL: http://www.national.com/ds/LM/LM3704.pdf; ComponentLink3Description: LM3704 Web Page; ComponentLink3URL: http://www.national.com/pf/LM/LM3704.html; ComponentLink4Description: MUB10A Package Page; ComponentLink4URL: http://www.national.com/packaging/folders/mub10a.html
footprint MUB10A_N (TSSOP, 10-Leads, Body 3x3mm, Pitch 0.5mm, IPC Medium Density)
footprint MUB10A_L (TSSOP, 10-Leads, Body 3x3mm, Pitch 0.5mm, IPC High Density)
footprint MUB10A_M (TSSOP, 10-Leads, Body 3x3mm, Pitch 0.5mm, IPC Low Density)
pins: 1 VCC (power), 2 ~{MR} (in), 3 PFI (in), 4 NC, 5 GND (power), 6 NC, 7 ~{LLO} (out), 8 ~{PFO} (out), 9 NC, 10 ~{RESET} (out)

## LM3710XKMM-463
designator U?
Microprocessor Supervisory Circuits with Power Fail Input, Low Line Output, Manual Reset and Watchdog Timer, 10-pin MSOP; PartNumber: LM3710XKMM-463; Manufacturer: National Semiconductor; PackageTopMarking: ZXTT*R74B; PowerWise: N; CompType: MiscPower; High-Reliability: Y; DatasheetVersion: Jan-2005; PackageVersion: revB, Jul-2003; PackageReference: MUB10A; PackageDescription: Mini-SO, Molded, .118 x .118 x .034in Body, 10 Lead, .0197in Pitch; RoHS: N; PinCount: 10; Code_JEDEC: MO-187-BA; ComponentLink1Description: Manufacturer URL; ComponentLink1URL: http://www.national.com/; ComponentLink2Description: LM3710 Datasheet; ComponentLink2URL: http://www.national.com/ds/LM/LM3710.pdf; ComponentLink3Description: LM3710 Web Page; ComponentLink3URL: http://www.national.com/pf/LM/LM3710.html; ComponentLink4Description: MUB10A Package Page; ComponentLink4URL: http://www.national.com/packaging/folders/mub10a.html
footprint MUB10A_N (TSSOP, 10-Leads, Body 3x3mm, Pitch 0.5mm, IPC Medium Density)
footprint MUB10A_L (TSSOP, 10-Leads, Body 3x3mm, Pitch 0.5mm, IPC High Density)
footprint MUB10A_M (TSSOP, 10-Leads, Body 3x3mm, Pitch 0.5mm, IPC Low Density)
pins: 1 VCC (power), 2 ~{MR} (in), 3 PFI (in), 4 WDI, 5 GND (power), 6 NC, 7 ~{LLO} (out), 8 ~{PFO} (out), 9 NC, 10 ~{RESET} (out)

## LM3710XQMM-308
designator U?
Microprocessor Supervisory Circuits with Power Fail Input, Low Line Output, Manual Reset and Watchdog Timer, 10-pin MSOP; PartNumber: LM3710XQMM-308; Manufacturer: National Semiconductor; PackageTopMarking: ZXTT*R37B; PowerWise: N; CompType: MiscPower; High-Reliability: Y; DatasheetVersion: Jan-2005; PackageVersion: revB, Jul-2003; PackageReference: MUB10A; PackageDescription: Mini-SO, Molded, .118 x .118 x .034in Body, 10 Lead, .0197in Pitch; RoHS: N; PinCount: 10; Code_JEDEC: MO-187-BA; ComponentLink1Description: Manufacturer URL; ComponentLink1URL: http://www.national.com/; ComponentLink2Description: LM3710 Datasheet; ComponentLink2URL: http://www.national.com/ds/LM/LM3710.pdf; ComponentLink3Description: LM3710 Web Page; ComponentLink3URL: http://www.national.com/pf/LM/LM3710.html; ComponentLink4Description: MUB10A Package Page; ComponentLink4URL: http://www.national.com/packaging/folders/mub10a.html
footprint MUB10A_N (TSSOP, 10-Leads, Body 3x3mm, Pitch 0.5mm, IPC Medium Density)
footprint MUB10A_L (TSSOP, 10-Leads, Body 3x3mm, Pitch 0.5mm, IPC High Density)
footprint MUB10A_M (TSSOP, 10-Leads, Body 3x3mm, Pitch 0.5mm, IPC Low Density)
pins: 1 VCC (power), 2 ~{MR} (in), 3 PFI (in), 4 WDI, 5 GND (power), 6 NC, 7 ~{LLO} (out), 8 ~{PFO} (out), 9 NC, 10 ~{RESET} (out)

## LM3710XQMM-308/NOPB
designator U?
Microprocessor Supervisory Circuits with Power Fail Input, Low Line Output, Manual Reset and Watchdog Timer, 10-pin MSOP, Pb-Free; PartNumber: LM3710XQMM-308/NOPB; Manufacturer: National Semiconductor; PackageTopMarking: ZXTT*R37B; PowerWise: N; CompType: MiscPower; High-Reliability: Y; DatasheetVersion: Jan-2005; PackageVersion: revB, Jul-2003; PackageReference: MUB10A; PackageDescription: Mini-SO, Molded, .118 x .118 x .034in Body, 10 Lead, .0197in Pitch; RoHS: Y; PinCount: 10; Code_JEDEC: MO-187-BA; ComponentLink1Description: Manufacturer URL; ComponentLink1URL: http://www.national.com/; ComponentLink2Description: LM3710 Datasheet; ComponentLink2URL: http://www.national.com/ds/LM/LM3710.pdf; ComponentLink3Description: LM3710 Web Page; ComponentLink3URL: http://www.national.com/pf/LM/LM3710.html; ComponentLink4Description: MUB10A Package Page; ComponentLink4URL: http://www.national.com/packaging/folders/mub10a.html
footprint MUB10A_N (TSSOP, 10-Leads, Body 3x3mm, Pitch 0.5mm, IPC Medium Density)
footprint MUB10A_L (TSSOP, 10-Leads, Body 3x3mm, Pitch 0.5mm, IPC High Density)
footprint MUB10A_M (TSSOP, 10-Leads, Body 3x3mm, Pitch 0.5mm, IPC Low Density)
pins: 1 VCC (power), 2 ~{MR} (in), 3 PFI (in), 4 WDI, 5 GND (power), 6 NC, 7 ~{LLO} (out), 8 ~{PFO} (out), 9 NC, 10 ~{RESET} (out)

## LM3710XQMMX-308
designator U?
Microprocessor Supervisory Circuits with Power Fail Input, Low Line Output, Manual Reset and Watchdog Timer, 10-pin MSOP; PartNumber: LM3710XQMMX-308; Manufacturer: National Semiconductor; PackageTopMarking: ZXTT*R37B; PowerWise: N; CompType: MiscPower; High-Reliability: Y; DatasheetVersion: Jan-2005; PackageVersion: revB, Jul-2003; PackageReference: MUB10A; PackageDescription: Mini-SO, Molded, .118 x .118 x .034in Body, 10 Lead, .0197in Pitch; RoHS: N; PinCount: 10; Code_JEDEC: MO-187-BA; ComponentLink1Description: Manufacturer URL; ComponentLink1URL: http://www.national.com/; ComponentLink2Description: LM3710 Datasheet; ComponentLink2URL: http://www.national.com/ds/LM/LM3710.pdf; ComponentLink3Description: LM3710 Web Page; ComponentLink3URL: http://www.national.com/pf/LM/LM3710.html; ComponentLink4Description: MUB10A Package Page; ComponentLink4URL: http://www.national.com/packaging/folders/mub10a.html
footprint MUB10A_N (TSSOP, 10-Leads, Body 3x3mm, Pitch 0.5mm, IPC Medium Density)
footprint MUB10A_L (TSSOP, 10-Leads, Body 3x3mm, Pitch 0.5mm, IPC High Density)
footprint MUB10A_M (TSSOP, 10-Leads, Body 3x3mm, Pitch 0.5mm, IPC Low Density)
pins: 1 VCC (power), 2 ~{MR} (in), 3 PFI (in), 4 WDI, 5 GND (power), 6 NC, 7 ~{LLO} (out), 8 ~{PFO} (out), 9 NC, 10 ~{RESET} (out)

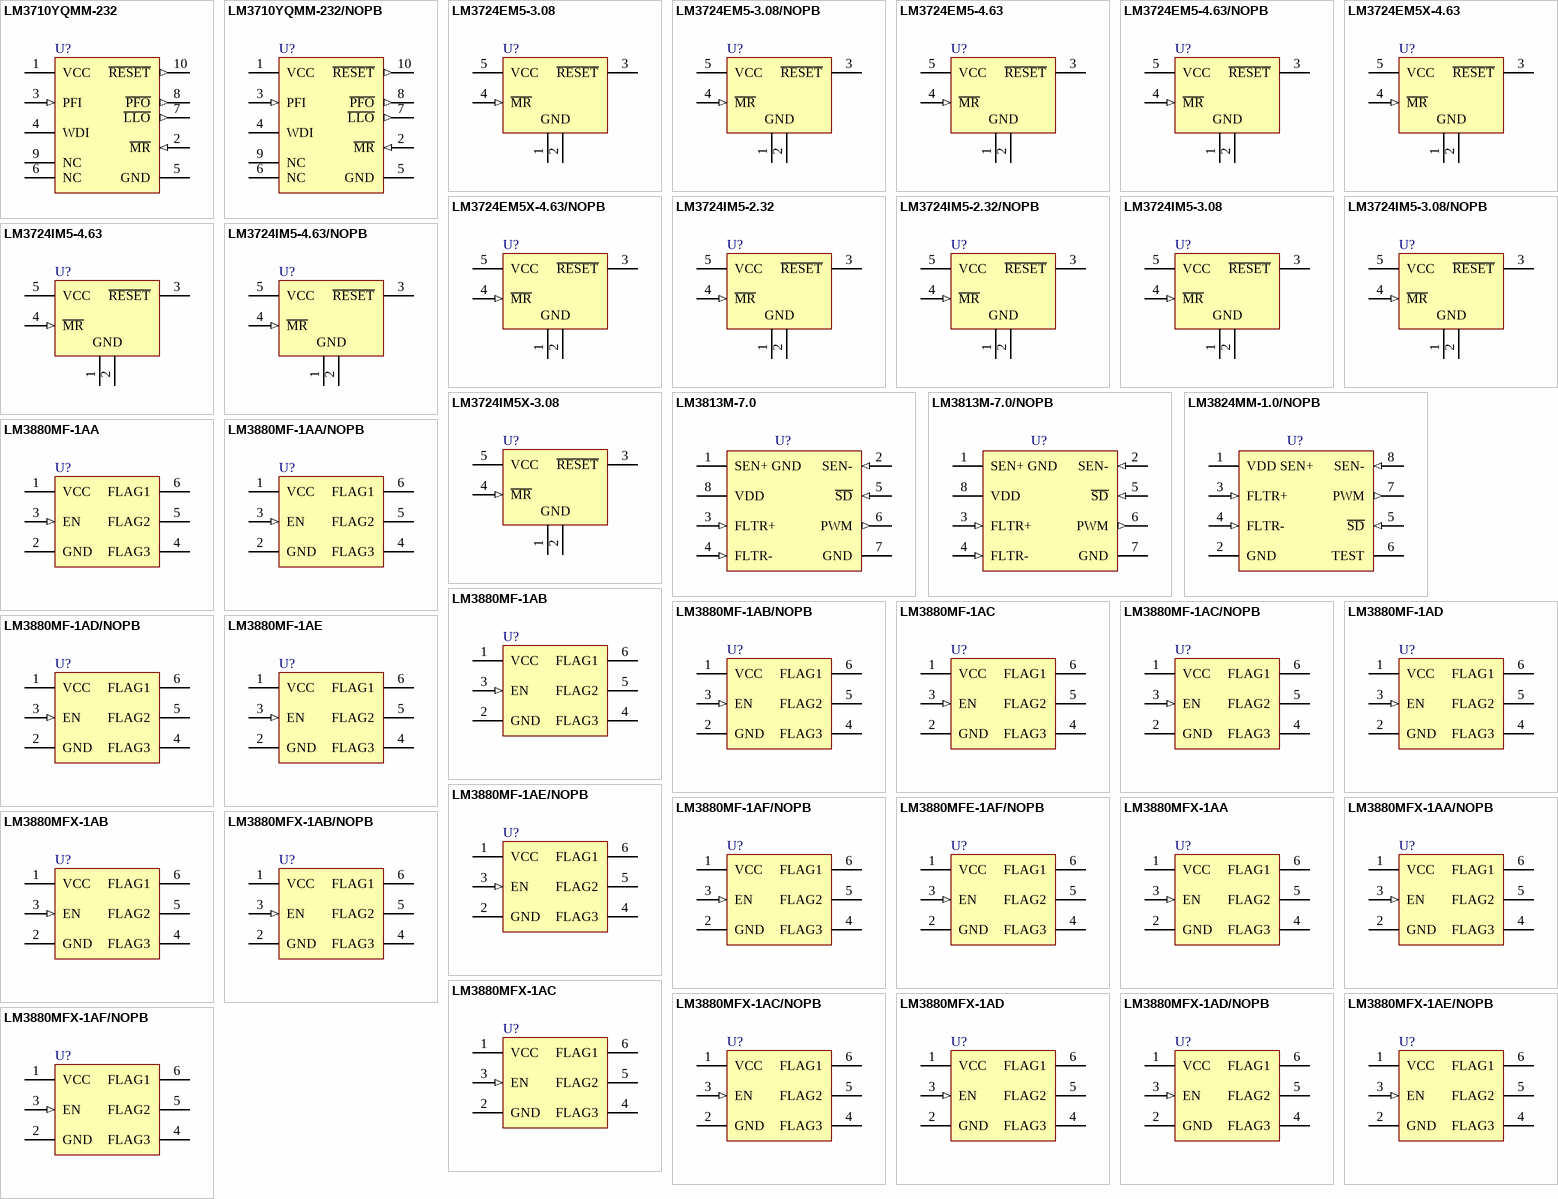
[diagram p24: symbols LM3710YQMM-232 to LM3880MFX-1AF/NOPB]

## LM3710YQMM-232
designator U?
Microprocessor Supervisory Circuits with Power Fail Input, Low Line Output, Manual Reset and Watchdog Timer, 10-pin MSOP; PartNumber: LM3710YQMM-232; Manufacturer: National Semiconductor; PackageTopMarking: ZXTT*R77B; PowerWise: N; CompType: MiscPower; High-Reliability: Y; DatasheetVersion: Jan-2005; PackageVersion: revB, Jul-2003; PackageReference: MUB10A; PackageDescription: Mini-SO, Molded, .118 x .118 x .034in Body, 10 Lead, .0197in Pitch; RoHS: N; PinCount: 10; Code_JEDEC: MO-187-BA; ComponentLink1Description: Manufacturer URL; ComponentLink1URL: http://www.national.com/; ComponentLink2Description: LM3710 Datasheet; ComponentLink2URL: http://www.national.com/ds/LM/LM3710.pdf; ComponentLink3Description: LM3710 Web Page; ComponentLink3URL: http://www.national.com/pf/LM/LM3710.html; ComponentLink4Description: MUB10A Package Page; ComponentLink4URL: http://www.national.com/packaging/folders/mub10a.html
footprint MUB10A_N (TSSOP, 10-Leads, Body 3x3mm, Pitch 0.5mm, IPC Medium Density)
footprint MUB10A_L (TSSOP, 10-Leads, Body 3x3mm, Pitch 0.5mm, IPC High Density)
footprint MUB10A_M (TSSOP, 10-Leads, Body 3x3mm, Pitch 0.5mm, IPC Low Density)
pins: 1 VCC (power), 2 ~{MR} (in), 3 PFI (in), 4 WDI, 5 GND (power), 6 NC, 7 ~{LLO} (out), 8 ~{PFO} (out), 9 NC, 10 ~{RESET} (out)

## LM3710YQMM-232/NOPB
designator U?
Microprocessor Supervisory Circuits with Power Fail Input, Low Line Output, Manual Reset and Watchdog Timer, 10-pin MSOP, Pb-Free; PartNumber: LM3710YQMM-232/NOPB; Manufacturer: National Semiconductor; PackageTopMarking: ZXTT*R77B; PowerWise: N; CompType: MiscPower; High-Reliability: Y; DatasheetVersion: Jan-2005; PackageVersion: revB, Jul-2003; PackageReference: MUB10A; PackageDescription: Mini-SO, Molded, .118 x .118 x .034in Body, 10 Lead, .0197in Pitch; RoHS: Y; PinCount: 10; Code_JEDEC: MO-187-BA; ComponentLink1Description: Manufacturer URL; ComponentLink1URL: http://www.national.com/; ComponentLink2Description: LM3710 Datasheet; ComponentLink2URL: http://www.national.com/ds/LM/LM3710.pdf; ComponentLink3Description: LM3710 Web Page; ComponentLink3URL: http://www.national.com/pf/LM/LM3710.html; ComponentLink4Description: MUB10A Package Page; ComponentLink4URL: http://www.national.com/packaging/folders/mub10a.html
footprint MUB10A_N (TSSOP, 10-Leads, Body 3x3mm, Pitch 0.5mm, IPC Medium Density)
footprint MUB10A_L (TSSOP, 10-Leads, Body 3x3mm, Pitch 0.5mm, IPC High Density)
footprint MUB10A_M (TSSOP, 10-Leads, Body 3x3mm, Pitch 0.5mm, IPC Low Density)
pins: 1 VCC (power), 2 ~{MR} (in), 3 PFI (in), 4 WDI, 5 GND (power), 6 NC, 7 ~{LLO} (out), 8 ~{PFO} (out), 9 NC, 10 ~{RESET} (out)

## LM3724EM5-3.08
designator U?
Microprocessor Reset Circuits, 5-pin SOT-23; PartNumber: LM3724EM5-3.08; Manufacturer: National Semiconductor; PackageTopMarking: R63B*XTT; PowerWise: N; CompType: MiscPower; High-Reliability: Y; DatasheetVersion: Jul-2007; PackageVersion: revD, Aug-2008; PackageReference: MF05A; PackageDescription: Molded SOT-23, .115 x .063 x .040 in Body, 5 Lead, .0375 in Pitch; RoHS: N; PinCount: 5; ComponentLink1Description: Manufacturer URL; ComponentLink1URL: http://www.national.com/; ComponentLink2Description: LM3724 Datasheet; ComponentLink2URL: http://www.national.com/ds/LM/LM3724.pdf; ComponentLink3Description: LM3724 Web Page; ComponentLink3URL: http://www.national.com/pf/LM/LM3724.html; ComponentLink4Description: MF05A Package Page; ComponentLink4URL: http://www.national.com/packaging/folders/mf05a.html
footprint MF05A_N (SOT23, 5-Leads, Body 2.9x1.6mm, Pitch 0.95mm, Lead Span 2.8mm, IPC Medium Density)
footprint MF05A_L (SOT23, 5-Leads, Body 2.9x1.6mm, Pitch 0.95mm, Lead Span 2.8mm, IPC High Density)
footprint MF05A_M (SOT23, 5-Leads, Body 2.9x1.6mm, Pitch 0.95mm, Lead Span 2.8mm, IPC Low Density)
pins: 1 GND (power), 2 GND (power), 3 ~{RESET} (oc), 4 ~{MR} (in), 5 VCC (power)

## LM3724EM5-3.08/NOPB
designator U?
5-Pin Microprocessor Reset Circuits, 5-pin SOT-23, Pb-Free; PartNumber: LM3724EM5-3.08/NOPB; Manufacturer: National Semiconductor; PackageTopMarking: R63B*XTT; PowerWise: N; CompType: MiscPower; High-Reliability: Y; DatasheetVersion: Jul-2007; PackageVersion: revD, Aug-2008; PackageReference: MF05A; PackageDescription: Molded SOT-23, .115 x .063 x .040 in Body, 5 Lead, .0375 in Pitch; RoHS: Y; PinCount: 5; ComponentLink1Description: Manufacturer URL; ComponentLink1URL: http://www.national.com/; ComponentLink2Description: LM3724 Datasheet; ComponentLink2URL: http://www.national.com/ds/LM/LM3724.pdf; ComponentLink3Description: LM3724 Web Page; ComponentLink3URL: http://www.national.com/pf/LM/LM3724.html; ComponentLink4Description: MF05A Package Page; ComponentLink4URL: http://www.national.com/packaging/folders/mf05a.html
footprint MF05A_N (SOT23, 5-Leads, Body 2.9x1.6mm, Pitch 0.95mm, Lead Span 2.8mm, IPC Medium Density)
footprint MF05A_L (SOT23, 5-Leads, Body 2.9x1.6mm, Pitch 0.95mm, Lead Span 2.8mm, IPC High Density)
footprint MF05A_M (SOT23, 5-Leads, Body 2.9x1.6mm, Pitch 0.95mm, Lead Span 2.8mm, IPC Low Density)
pins: 1 GND (power), 2 GND (power), 3 ~{RESET} (oc), 4 ~{MR} (in), 5 VCC (power)